# EAGLE library part TI-REG710 (library arducorder-mini)
Texas Instruments REG710 mini switching regulator (~30ma)
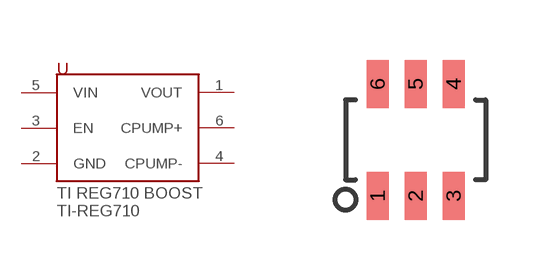
[diagram p36: symbol with the pads of SOT-23-6L; footprint SOT-23-6L]

Designator prefix -

## TI-REG710  [SOT-23-6L]
1  VOUT
2  GND
3  EN
4  CPUMP-
5  VIN
6  CPUMP+

## Footprint SOT-23-6L (pad centres in mm)
smd 0.55 x 1.2: 1 -0.95,-1.4; 2 0,-1.4; 3 0.95,-1.4; 4 0.95,1.4; 5 0,1.4; 6 -0.95,1.4